# Altium footprint library Switch.PcbLib: 6 footprints
Each footprint in its own frame and in the unit in brackets; x right, y up, seen from the top. Pads: shape width x height; smd on the part's side, far side on the other; paste and mask are expansions set on the pad; w line width, h text height; cw(c..) or ccw(c..) is an arc to the next point about the centre after c.
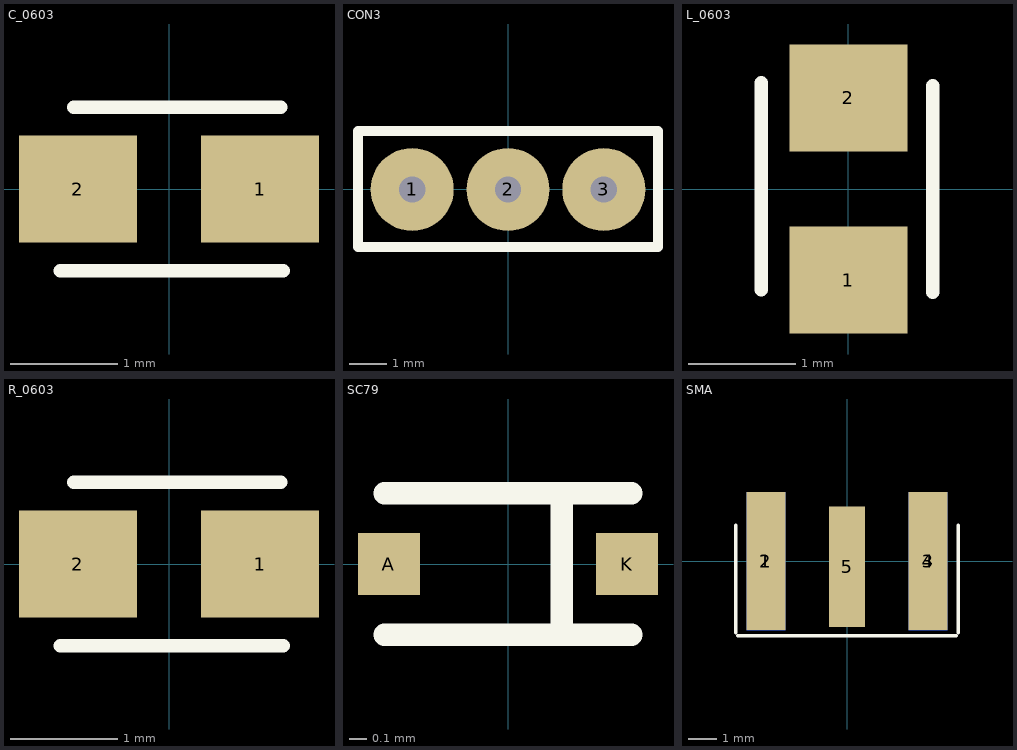
[diagram p0: the footprints below, top view; thin cyan lines are the x and y axes]

## C_0603 [mm] "capacitor"
pads (2):
  rect 1.1x1 smd: 1(0.85,0) 2(-0.85,0)
Top Overlay:
  lines w0.127: -1.016,-0.762 1.067,-0.762 ; -0.889,0.762 1.041,0.762

## CON3 [mm] "tira pines"
pads (3):
  round 2.2 hole 0.7: 1(-2.54,0) 2(0,0) 3(2.54,0)
Top Overlay:
  lines w0.254: -3.975,-1.525 3.975,-1.525 3.975,1.55 -3.975,1.55 -3.975,-1.525

## L_0603 [mm] "36521J"
pads (2):
  rect 1.1x1 smd: 1(0,-0.85) 2(0,0.85)
Top Overlay:
  lines w0.127: -0.813,-0.94 -0.813,0.991 ; 0.787,-0.965 0.787,0.965

## R_0603 [mm] "resistor"
pads (2):
  rect 1.1x1 smd: 1(0.85,0) 2(-0.85,0)
Top Overlay:
  lines w0.127: -1.016,-0.762 1.067,-0.762 ; -0.889,0.762 1.041,0.762

## SC79 [mm] "diodo pin"
pads (2):
  rect 0.35x0.35 smd: A(-0.675,0) K(0.675,0)
Top Overlay:
  lines w0.127: -0.7,-0.4 0.7,-0.4 ; -0.7,0.4 0.7,0.4 ; 0.305,-0.33 0.305,0.375

## SMA [mm] "conector SMA"
pads (5):
  rect 1.35x4.8 smd: 1(-2.825,0) 4(2.825,0)
  rect 1.35x4.8 smd far side: 2(-2.825,0) 3(2.825,0)
  rect 1.27x4.2 smd: 5(0,-0.2)
Top Overlay:
  lines w0.127: -3.875,-2.5 -3.875,1.25 ; -3.8,-2.6 3.8,-2.6 ; 3.875,-2.5 3.875,1.25